# EAGLE library part XBEE-? (library kiks-connector)
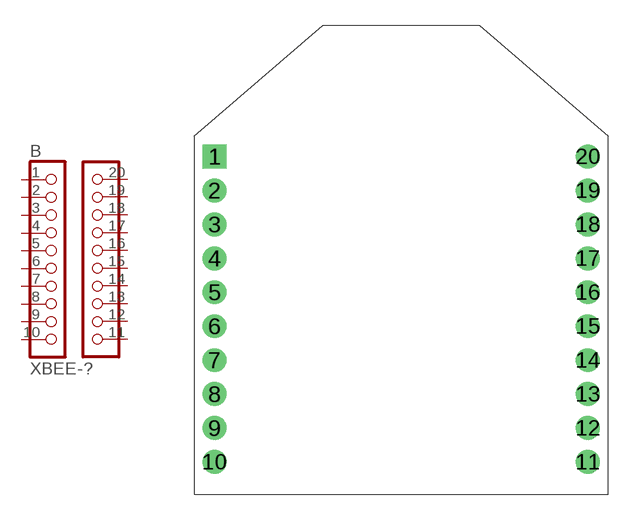
[diagram p3: symbol with the pads of XBEE; footprint XBEE]

Designator prefix B

## XBEE-SHORT  [XBEE]
1  1  pas
2  2  pas
3  3  pas
4  4  pas
5  5  pas
6  6  pas
7  7  pas
8  8  pas
9  9  pas
10  10  pas
11  11  pas
12  12  pas
13  13  pas
14  14  pas
15  15  pas
16  16  pas
17  17  pas
18  18  pas
19  19  pas
20  20  pas

## Footprint XBEE (pad centres in mm)
drill 0.9 pad 1.3 square: 1 -11,9
drill 0.9 pad 1.3: 2 -11,7; 3 -11,5; 4 -11,3; 5 -11,1; 6 -11,-1; 7 -11,-3; 8 -11,-5; 9 -11,-7; 10 -11,-9; 11 11,-9; 12 11,-7; 13 11,-5; 14 11,-3; 15 11,-1; 16 11,1; 17 11,3; 18 11,5; 19 11,7; 20 11,9